# EAGLE library part XBEEPRO (library pixhawk2-import)
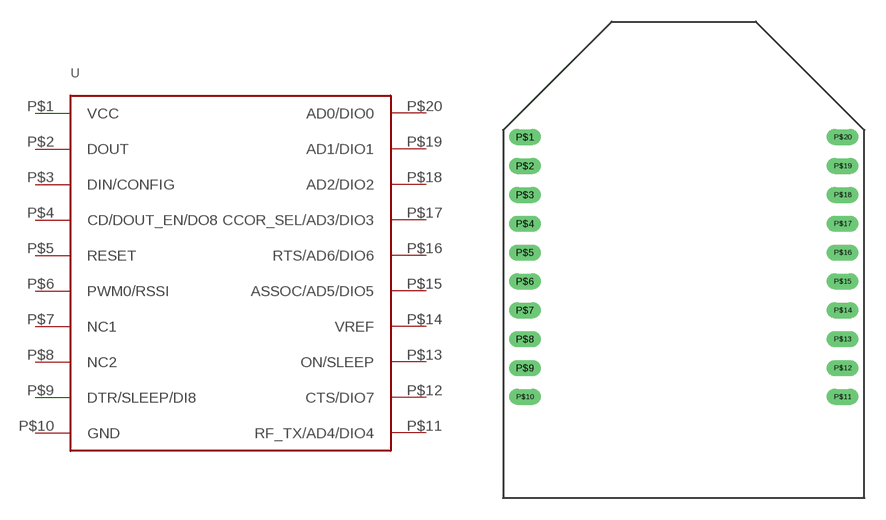
[diagram p20: symbol with the pads of XBEE; footprint XBEE]

Designator prefix -

## XBEEPRO  [XBEE]
P$1  VCC
P$2  DOUT
P$3  DIN/CONFIG
P$4  CD/DOUT_EN/DO8
P$5  RESET
P$6  PWM0/RSSI
P$7  NC1
P$8  NC2
P$9  DTR/SLEEP/DI8
P$10  GND
P$11  RF_TX/AD4/DIO4
P$12  CTS/DIO7
P$13  ON/SLEEP
P$14  VREF
P$15  ASSOC/AD5/DIO5
P$16  RTS/AD6/DIO6
P$17  CCOR_SEL/AD3/DIO3
P$18  AD2/DIO2
P$19  AD1/DIO1
P$20  AD0/DIO0

## Footprint XBEE (pad centres in mm)
drill 0.6 long: P$1 -11,9; P$2 -11,7; P$3 -11,5; P$4 -11,3; P$5 -11,1; P$6 -11,-1; P$7 -11,-3; P$8 -11,-5; P$9 -11,-7; P$10 -11,-9; P$11 11,-9; P$12 11,-7; P$13 11,-5; P$14 11,-3; P$15 11,-1; P$16 11,1; P$17 11,3; P$18 11,5; P$19 11,7; P$20 11,9